# EAGLE library part SSW-128-02-S-Q (library con-samtec)
THROUGH-HOLE .025" SQ POST SOCKET Source: Samtec SSW.pdf
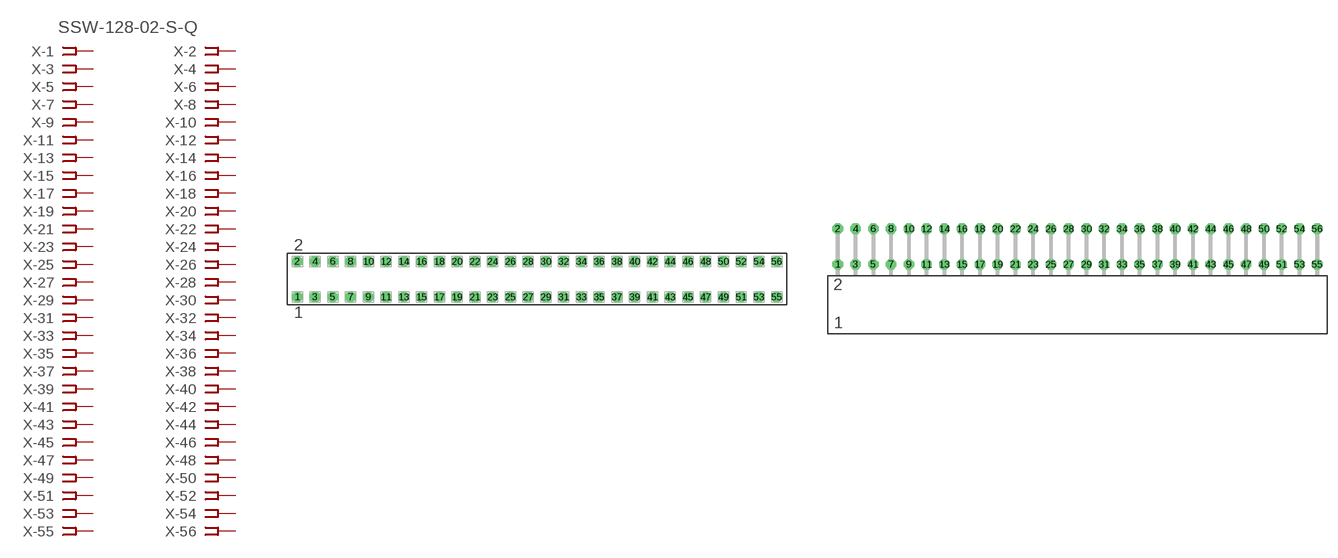
[diagram p120: symbol with the pads of SSW-128-02-S-Q; footprints SSW-128-02-S-Q, SSW-128-02-S-Q-RA]

Designator prefix X; gates -1=FPINV -2=FPIN -3=FPIN -4=FPIN -5=FPIN -6=FPIN -7=FPIN -8=FPIN -9=FPIN -10=FPIN -11=FPIN -12=FPIN -13=FPIN -14=FPIN -15=FPIN -16=FPIN -17=FPIN -18=FPIN -19=FPIN -20=FPIN -21=FPIN -22=FPIN -23=FPIN -24=FPIN -25=FPIN -26=FPIN -27=FPIN -28=FPIN -29=FPIN -30=FPIN -31=FPIN -32=FPIN -33=FPIN -34=FPIN -35=FPIN -36=FPIN -37=FPIN -38=FPIN -39=FPIN -40=FPIN -41=FPIN -42=FPIN -43=FPIN -44=FPIN -45=FPIN -46=FPIN -47=FPIN -48=FPIN -49=FPIN -50=FPIN -51=FPIN -52=FPIN -53=FPIN -54=FPIN -55=FPIN -56=FPIN

## SSW-128-02-S-Q  [SSW-128-02-S-Q]
1  -1:1  pas
2  -2:1  pas
3  -3:1  pas
4  -4:1  pas
5  -5:1  pas
6  -6:1  pas
7  -7:1  pas
8  -8:1  pas
9  -9:1  pas
10  -10:1  pas
11  -11:1  pas
12  -12:1  pas
13  -13:1  pas
14  -14:1  pas
15  -15:1  pas
16  -16:1  pas
17  -17:1  pas
18  -18:1  pas
19  -19:1  pas
20  -20:1  pas
21  -21:1  pas
22  -22:1  pas
23  -23:1  pas
24  -24:1  pas
25  -25:1  pas
26  -26:1  pas
27  -27:1  pas
28  -28:1  pas
29  -29:1  pas
30  -30:1  pas
31  -31:1  pas
32  -32:1  pas
33  -33:1  pas
34  -34:1  pas
35  -35:1  pas
36  -36:1  pas
37  -37:1  pas
38  -38:1  pas
39  -39:1  pas
40  -40:1  pas
41  -41:1  pas
42  -42:1  pas
43  -43:1  pas
44  -44:1  pas
45  -45:1  pas
46  -46:1  pas
47  -47:1  pas
48  -48:1  pas
49  -49:1  pas
50  -50:1  pas
51  -51:1  pas
52  -52:1  pas
53  -53:1  pas
54  -54:1  pas
55  -55:1  pas
56  -56:1  pas

## SSW-128-02-S-QRA  [SSW-128-02-S-Q-RA]
Pads as for SSW-128-02-S-Q

## Footprint SSW-128-02-S-Q (pad centres in mm)
THROUGH-HOLE .025" SQ POST SOCKET Source: Samtec SSW.pdf
drill 1 pad 1.5 octagon: 1 -34.29,-2.54; 2 -34.29,2.54; 3 -31.75,-2.54; 4 -31.75,2.54; 5 -29.21,-2.54; 6 -29.21,2.54; 7 -26.67,-2.54; 8 -26.67,2.54; 9 -24.13,-2.54; 10 -24.13,2.54; 11 -21.59,-2.54; 12 -21.59,2.54; 13 -19.05,-2.54; 14 -19.05,2.54; 15 -16.51,-2.54; 16 -16.51,2.54; 17 -13.97,-2.54; 18 -13.97,2.54; 19 -11.43,-2.54; 20 -11.43,2.54; 21 -8.89,-2.54; 22 -8.89,2.54; 23 -6.35,-2.54; 24 -6.35,2.54; 25 -3.81,-2.54; 26 -3.81,2.54; 27 -1.27,-2.54; 28 -1.27,2.54; 29 1.27,-2.54; 30 1.27,2.54; 31 3.81,-2.54; 32 3.81,2.54; 33 6.35,-2.54; 34 6.35,2.54; 35 8.89,-2.54; 36 8.89,2.54; 37 11.43,-2.54; 38 11.43,2.54; 39 13.97,-2.54; 40 13.97,2.54; 41 16.51,-2.54; 42 16.51,2.54; 43 19.05,-2.54; 44 19.05,2.54; 45 21.59,-2.54; 46 21.59,2.54; 47 24.13,-2.54; 48 24.13,2.54; 49 26.67,-2.54; 50 26.67,2.54; 51 29.21,-2.54; 52 29.21,2.54; 53 31.75,-2.54; 54 31.75,2.54; 55 34.29,-2.54; 56 34.29,2.54

## Footprint SSW-128-02-S-Q-RA (pad centres in mm)
THROUGH-HOLE .025" SQ POST SOCKET Source: Samtec SSW.pdf
drill 1 pad 1.5 octagon: 1 -34.29,1.524; 2 -34.29,6.604; 3 -31.75,1.524; 4 -31.75,6.604; 5 -29.21,1.524; 6 -29.21,6.604; 7 -26.67,1.524; 8 -26.67,6.604; 9 -24.13,1.524; 10 -24.13,6.604; 11 -21.59,1.524; 12 -21.59,6.604; 13 -19.05,1.524; 14 -19.05,6.604; 15 -16.51,1.524; 16 -16.51,6.604; 17 -13.97,1.524; 18 -13.97,6.604; 19 -11.43,1.524; 20 -11.43,6.604; 21 -8.89,1.524; 22 -8.89,6.604; 23 -6.35,1.524; 24 -6.35,6.604; 25 -3.81,1.524; 26 -3.81,6.604; 27 -1.27,1.524; 28 -1.27,6.604; 29 1.27,1.524; 30 1.27,6.604; 31 3.81,1.524; 32 3.81,6.604; 33 6.35,1.524; 34 6.35,6.604; 35 8.89,1.524; 36 8.89,6.604; 37 11.43,1.524; 38 11.43,6.604; 39 13.97,1.524; 40 13.97,6.604; 41 16.51,1.524; 42 16.51,6.604; 43 19.05,1.524; 44 19.05,6.604; 45 21.59,1.524; 46 21.59,6.604; 47 24.13,1.524; 48 24.13,6.604; 49 26.67,1.524; 50 26.67,6.604; 51 29.21,1.524; 52 29.21,6.604; 53 31.75,1.524; 54 31.75,6.604; 55 34.29,1.524; 56 34.29,6.604